# Altium footprint library Kame_FMU.PcbLib: 23 footprints (part 1 of 2)
Each footprint in its own frame and in the unit in brackets; x right, y up, seen from the top. Pads: shape width x height; smd on the part's side, far side on the other; paste and mask are expansions set on the pad; w line width, h text height; cw(c..) or ccw(c..) is an arc to the next point about the centre after c.
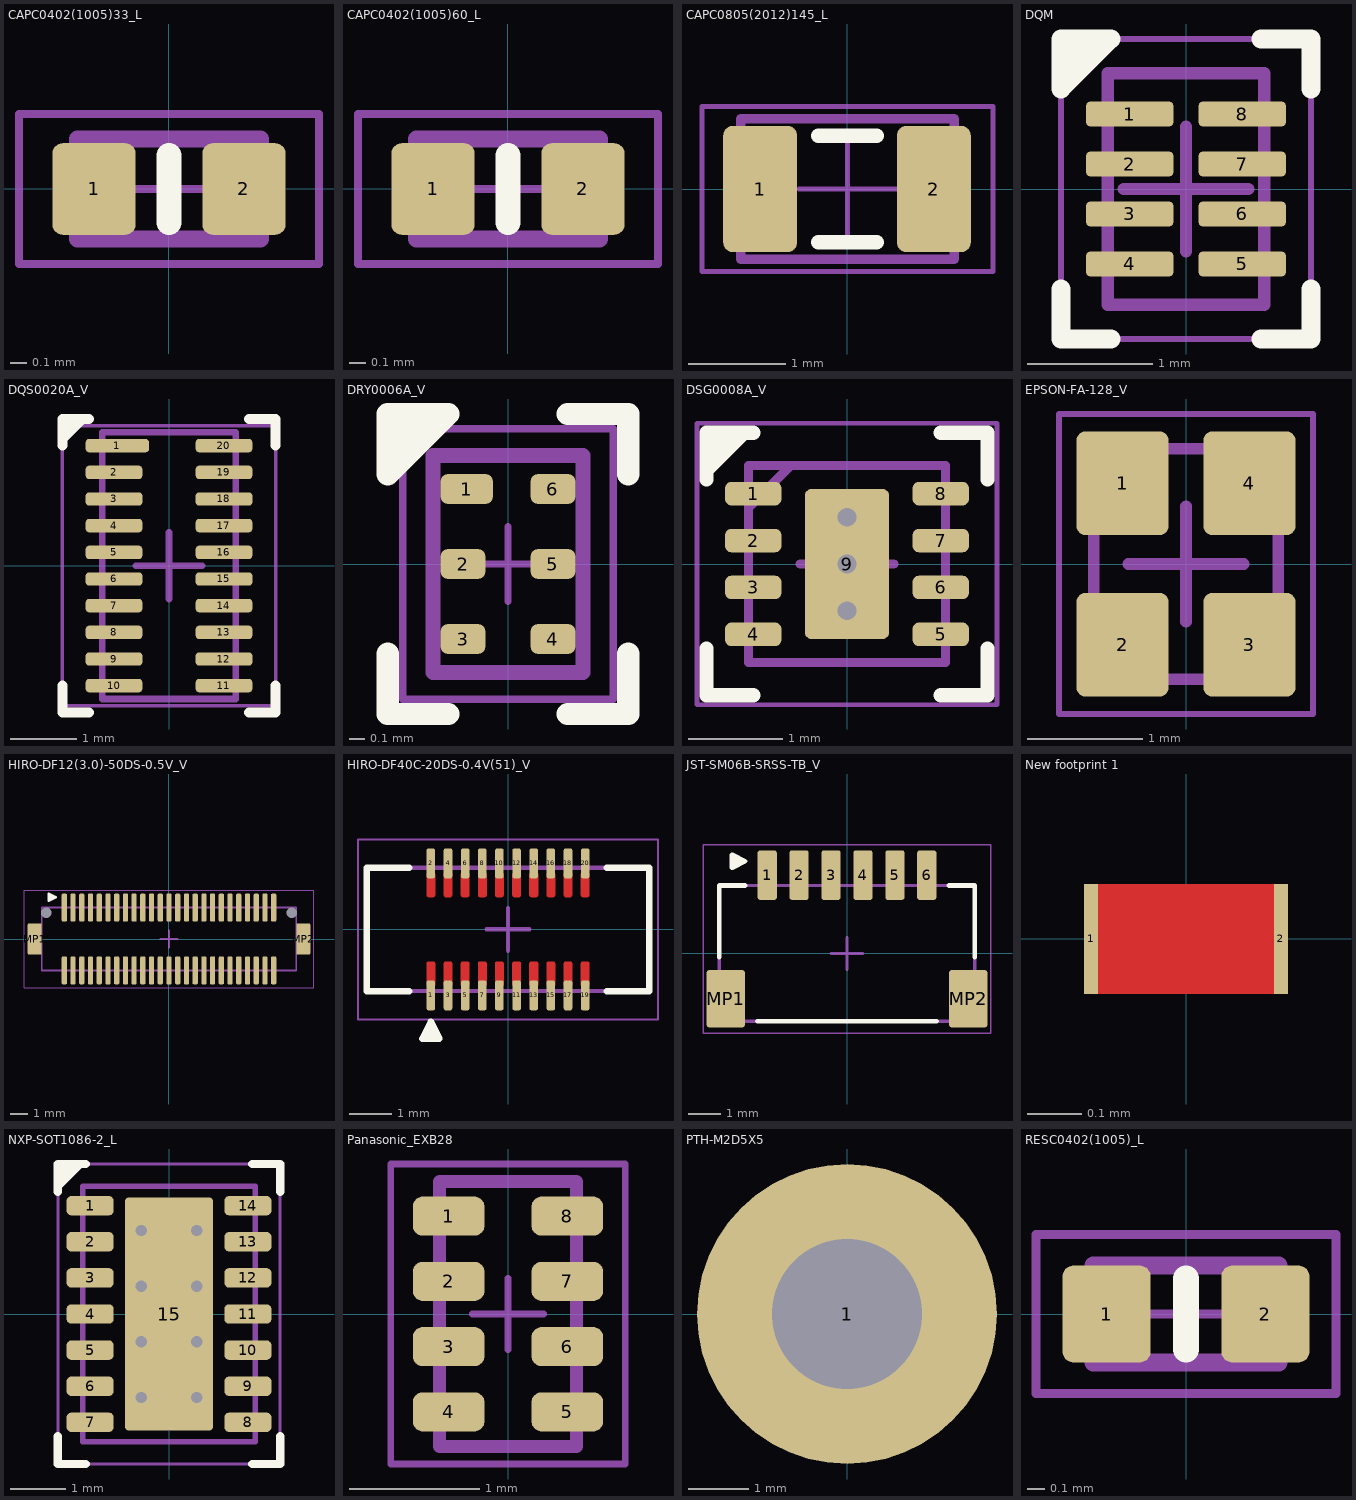
[diagram p0: the footprints below, top view; thin cyan lines are the x and y axes]

## CAPC0402(1005)33_L [mm]
pads (2):
  rrect25% 0.5x0.55 smd: 1(-0.45,0) 2(0.45,0)
Top Overlay:
  lines w0.15: 0,-0.2 0,0.2
Top Courtyard:
  lines w0.05: -0.275,0 0.275,0 ; 0,-0.275 0,0.275 ; -0.9,-0.45 -0.9,0.45 0.9,0.45 0.9,-0.45 -0.9,-0.45
Top Assembly:
  lines w0.1: -0.55,-0.3 0.55,-0.3 0.55,0.3 -0.55,0.3 -0.55,-0.3
Top Designator:
  text ".Designator" at -1.27,-0.127 h0.6
3D body "CAPC1005X55N EIA 0402.STEP": height 0.55, standoff 0, extent -0.5,-0.25 0.5,0.25

## CAPC0402(1005)60_L [mm]
pads (2):
  rrect25% 0.5x0.55 smd: 1(-0.45,0) 2(0.45,0)
Top Overlay:
  lines w0.15: 0,-0.2 0,0.2
Top Courtyard:
  lines w0.05: -0.275,0 0.275,0 ; 0,-0.275 0,0.275 ; -0.9,-0.45 0.9,-0.45 0.9,0.45 -0.9,0.45 -0.9,-0.45
Top Assembly:
  lines w0.1: -0.55,-0.3 -0.55,0.3 0.55,0.3 0.55,-0.3 -0.55,-0.3
Top Designator:
  text ".Designator" at -1.27,-0.127 h0.6
3D body "CAPC1005X60N EIA 0402.STEP": height 0.6, standoff 0, extent -0.5,-0.25 0.5,0.25

## CAPC0805(2012)145_L [mm]
pads (2):
  rrect25% 0.76x1.3 smd: 1(-0.9,0) 2(0.89,0)
Top Overlay:
  lines w0.15: -0.3,-0.55 0.3,-0.55 ; -0.3,0.55 0.3,0.55
Top Courtyard:
  lines w0.05: -0.5,0 0.5,0 ; 0,-0.5 0,0.5 ; -1.5,-0.85 1.5,-0.85 1.5,0.85 -1.5,0.85 -1.5,-0.85
Top Assembly:
  lines w0.1: -1.1,-0.725 -1.1,0.725 1.1,0.725 1.1,-0.725 -1.1,-0.725
Top Designator:
  text ".Designator" at -1.27,-0.127 h0.6
3D body "CAPC2012X145N EIA 0805.STEP": height 1.45, standoff 0, extent -1,-0.6 1,0.6

## DQM [mm]
pads (8):
  rrect36% 0.7x0.2 smd paste+0 mask+0.05: 1(-0.45,0.6) 2(-0.45,0.2) 3(-0.45,-0.2) 4(-0.45,-0.6) 5(0.45,-0.6) 6(0.45,-0.2) 7(0.45,0.2) 8(0.45,0.6)
Top Overlay:
  region: -1,1.2 -1,0.8 -0.6,1.2
  lines w0.15: -1,-0.8 -1,-1.2 -0.6,-1.2 ; 0.6,-1.2 1,-1.2 1,-0.8 ; 0.6,1.2 1,1.2 1,0.8 ; -1,0.8 -1,1.2 -0.6,1.2 -1,0.8 ; -1,0.8 -1,0.8
Top Courtyard:
  lines w0.05: -1,-1.2 -1,1.2 1,1.2 1,-1.2 -1,-1.2
  lines w0.1: -0.5,0 0.5,0 ; 0,-0.5 0,0.5
Top Assembly:
  lines w0.1: -0.625,-0.925 0.625,-0.925 0.625,0.925 -0.625,0.925 -0.625,-0.925
Top Designator:
  text ".Designator" at -1.27,-0.127 h0.6
3D body: height 0.35, standoff 0.05, extent -0.625,-0.925 0.625,0.925

## DQS0020A_V [mm]
pads (20):
  rrect50% 0.95x0.2 smd: 1(-0.775,1.8)
  rrect50% 0.85x0.2 smd: 2(-0.825,1.4) 3(-0.825,1) 4(-0.825,0.6) 5(-0.825,0.2) 6(-0.825,-0.2) 7(-0.825,-0.6) 8(-0.825,-1) 9(-0.825,-1.4) 10(-0.825,-1.8) 11(0.825,-1.8) 12(0.825,-1.4) 13(0.825,-1) 14(0.825,-0.6) 15(0.825,-0.2) 16(0.825,0.2) 17(0.825,0.6) 18(0.825,1) 19(0.825,1.4) 20(0.825,1.8)
Top Overlay:
  region: -1.6,2.2 -1.6,1.9 -1.3,2.2
  lines w0.15: -1.6,-1.8 -1.6,-2.2 -1.2,-2.2 ; -1.3,2.2 -1.6,1.9 ; -1.2,2.2 -1.6,2.2 -1.6,1.8 ; 1.2,-2.2 1.6,-2.2 1.6,-1.8 ; 1.2,2.2 1.6,2.2 1.6,1.8 ; -1.6,1.8 -1.6,1.8 ; -1.6,1.9 -1.6,1.9
Top Courtyard:
  lines w0.05: -1.6,-2.1 1.6,-2.1 1.6,2.1 -1.6,2.1 -1.6,-2.1
  lines w0.1: -0.5,0 0.5,0 ; 0,-0.5 0,0.5
Top Assembly:
  lines w0.1: -1,-2 1,-2 1,2 -1,2 -1,-2
Top Designator:
  text ".Designator" at -0.254,1.27 h0.6
3D body "USON20.STEP": height 0.5, standoff -0.05, extent -1.001,-2 1.001,2

## DRY0006A_V [mm]
pads (6):
  rrect50% 0.35x0.2 smd: 1(-0.275,0.5)
  rrect50% 0.3x0.2 smd: 2(-0.3,0) 3(-0.3,-0.5) 4(0.3,-0.5) 5(0.3,0) 6(0.3,0.5)
Top Overlay:
  region: -0.8,1 -0.8,0.6 -0.4,1
  lines w0.15: -0.8,-0.6 -0.8,-1 -0.4,-1 ; 0.4,-1 0.8,-1 0.8,-0.6 ; 0.4,1 0.8,1 0.8,0.6 ; -0.8,0.6 -0.4,1 -0.8,1 -0.8,0.6
Top Courtyard:
  lines w0.05: -0.25,0 0.25,0 ; 0,-0.25 0,0.25 ; -0.7,-0.9 0.7,-0.9 0.7,0.9 -0.7,0.9 -0.7,-0.9
Top Assembly:
  lines w0.1: -0.5,-0.725 0.5,-0.725 0.5,0.725 -0.5,0.725 -0.5,-0.725
Top Designator:
  text ".Designator" at -1.27,-0.127 h0.6
3D body "USON-6.STEP": height 0.51, standoff 0, extent -0.5,-0.75 0.5,0.75

## DSG0008A_V [mm]
pads (9):
  rrect50% 0.6x0.25 smd: 1(-1,0.75) 2(-1,0.25) 3(-1,-0.25) 4(-1,-0.75) 5(1,-0.75) 6(1,-0.25) 7(1,0.25) 8(1,0.75)
  rrect15% 0.9x1.6 smd paste-0.45: 9(0,0)
via 0,0 diameter 0.4 hole 0.2
via 0,-0.5 diameter 0.4 hole 0.2
via 0,0.5 diameter 0.4 hole 0.2
Top Overlay:
  region: -1.5,1.4 -1.5,1 -1.1,1.4
  lines w0.15: -1.5,-0.9 -1.5,-1.4 -1,-1.4 ; -1.5,0.9 -1.5,1.4 -1,1.4 ; -1.5,1 -1.1,1.4 ; 1,-1.4 1.5,-1.4 1.5,-0.9 ; 1,1.4 1.5,1.4 1.5,0.9
Top Paste:
  rectangle: -0.427,-0.733 0.427,0.733
Top Courtyard:
  lines w0.05: -1.6,-1.5 1.6,-1.5 1.6,1.5 -1.6,1.5 -1.6,-1.5
  lines w0.1: -0.5,0 0.5,0 ; 0,-0.5 0,0.5
Top Assembly:
  lines w0.1: -1.05,0.6 -0.6,1.05 ; -1.05,-1.05 -1.05,1.05 1.05,1.05 1.05,-1.05 -1.05,-1.05
Top Designator:
  text ".Designator" at -1.27,-0.127 h0.6
3D body "WSON8-2x2mm-1.STEP": height 0.79, standoff -0.01, extent -1,-1 1,1

## EPSON-FA-128_V [mm]
pads (4):
  rrect20% 0.8x0.9 smd: 1(-0.55,0.7) 2(-0.55,-0.7) 3(0.55,-0.7) 4(0.55,0.7)
Top Courtyard:
  lines w0.05: -1.1,-1.3 -1.1,1.3 1.1,1.3 1.1,-1.3 -1.1,-1.3
  lines w0.1: -0.5,0 0.5,0 ; 0,-0.5 0,0.5
Top Assembly:
  lines w0.1: -0.8,0.7 -0.5,1 ; -0.8,-1 0.8,-1 0.8,1 -0.8,1 -0.8,-1
Top Designator:
  text ".Designator" at -1.27,-0.127 h0.6
3D body "CX2016DB16000D0GPSC1.STEP": height 0.4, standoff 0, extent -0.8,-1 0.8,1

## HIRO-DF12(3.0)-50DS-0.5V_V [mm]
pads (54):
  rrect50% 0.3x1.6 smd paste-0.01: 1(-6,1.8) 2(-6,-1.8) 3(-5.5,1.8) 4(-5.5,-1.8) 5(-5,1.8) 6(-5,-1.8) 7(-4.5,1.8) 8(-4.5,-1.8) 9(-4,1.8) 10(-4,-1.8) 11(-3.5,1.8) 12(-3.5,-1.8) 13(-3,1.8) 14(-3,-1.8) 15(-2.5,1.8) 16(-2.5,-1.8) 17(-2,1.8) 18(-2,-1.8) 19(-1.5,1.8) 20(-1.5,-1.8) 21(-1,1.8) 22(-1,-1.8) 23(-0.5,1.8) 24(-0.5,-1.8) 25(0,1.8) 26(0,-1.8) 27(0.5,1.8) 28(0.5,-1.8) 29(1,1.8) 30(1,-1.8) 31(1.5,1.8) 32(1.5,-1.8) 33(2,1.8) 34(2,-1.8) 35(2.5,1.8) 36(2.5,-1.8) 37(3,1.8) 38(3,-1.8) 39(3.5,1.8) 40(3.5,-1.8) 41(4,1.8) 42(4,-1.8) 43(4.5,1.8) 44(4.5,-1.8) 45(5,1.8) 46(5,-1.8) 47(5.5,1.8) 48(5.5,-1.8) 49(6,1.8) 50(6,-1.8)
  round 0 hole 0.6 unplated: H1(-7.05,1.5) H2(7.05,1.5)
  rrect20% 0.8x1.8 smd: MP1(-7.7,0) MP2(7.7,0)
Top Overlay:
  region: -6.9,2.6 -6.9,2.2 -6.5,2.4
  lines w0.15: -6.9,2.2 -6.9,2.6 -6.5,2.4 -6.9,2.2
Top Courtyard:
  lines w0.05: -8.3,-2.8 8.3,-2.8 8.3,2.8 -8.3,2.8 -8.3,-2.8
  lines w0.1: -0.5,0 0.5,0 ; 0,-0.5 0,0.5
Top Assembly:
  lines w0.1: -7.3,-1.8 -7.3,1.8 7.3,1.8 7.3,-1.8 -7.3,-1.8
Top Designator:
  text ".Designator" at -1.27,-0.127 h0.6
3D body "DF12(3.0)-50DS-0.5V.stp": height 2.2, standoff -0.6, extent -7.8,-2.3 7.8,2.3

## HIRO-DF40C-20DS-0.4V(51)_V [mm]
pads (20):
  rrect50% 0.2x0.7 smd: 1(-1.8,-1.54) 2(-1.8,1.54) 3(-1.4,-1.54) 4(-1.4,1.54) 5(-1,-1.54) 6(-1,1.54) 7(-0.6,-1.54) 8(-0.6,1.54) 9(-0.2,-1.54) 10(-0.2,1.54) 11(0.2,-1.54) 12(0.2,1.54) 13(0.6,-1.54) 14(0.6,1.54) 15(1,-1.54) 16(1,1.54) 17(1.4,-1.54) 18(1.4,1.54) 19(1.8,-1.54) 20(1.8,1.54)
Top Layer:
  region: -1.9,-1.3 -1.7,-1.3 -1.7,-0.8 -1.7,-0.79 -1.708,-0.772 -1.722,-0.758 -1.74,-0.75 -1.75,-0.75 -1.85,-0.75 -1.86,-0.75 -1.878,-0.758 -1.892,-0.772 -1.9,-0.79 -1.9,-0.8
  region: -1.5,-1.3 -1.3,-1.3 -1.3,-0.8 -1.3,-0.79 -1.308,-0.772 -1.322,-0.758 -1.34,-0.75 -1.35,-0.75 -1.45,-0.75 -1.46,-0.75 -1.478,-0.758 -1.492,-0.772 -1.5,-0.79 -1.5,-0.8
  region: -1.1,-1.3 -0.9,-1.3 -0.9,-0.8 -0.9,-0.79 -0.908,-0.772 -0.922,-0.758 -0.94,-0.75 -0.95,-0.75 -1.05,-0.75 -1.06,-0.75 -1.078,-0.758 -1.092,-0.772 -1.1,-0.79 -1.1,-0.8
  region: -0.7,-1.3 -0.5,-1.3 -0.5,-0.8 -0.5,-0.79 -0.508,-0.772 -0.522,-0.758 -0.54,-0.75 -0.55,-0.75 -0.65,-0.75 -0.66,-0.75 -0.678,-0.758 -0.692,-0.772 -0.7,-0.79 -0.7,-0.8
  region: -0.3,-1.3 -0.1,-1.3 -0.1,-0.8 -0.1,-0.79 -0.108,-0.772 -0.122,-0.758 -0.14,-0.75 -0.15,-0.75 -0.25,-0.75 -0.26,-0.75 -0.278,-0.758 -0.292,-0.772 -0.3,-0.79 -0.3,-0.8
  region: 0.1,-1.3 0.3,-1.3 0.3,-0.8 0.3,-0.79 0.292,-0.772 0.278,-0.758 0.26,-0.75 0.25,-0.75 0.15,-0.75 0.14,-0.75 0.122,-0.758 0.108,-0.772 0.1,-0.79 0.1,-0.8
  region: 0.5,-1.3 0.7,-1.3 0.7,-0.8 0.7,-0.79 0.692,-0.772 0.678,-0.758 0.66,-0.75 0.65,-0.75 0.55,-0.75 0.54,-0.75 0.522,-0.758 0.508,-0.772 0.5,-0.79 0.5,-0.8
  region: 0.9,-1.3 1.1,-1.3 1.1,-0.8 1.1,-0.79 1.092,-0.772 1.078,-0.758 1.06,-0.75 1.05,-0.75 0.95,-0.75 0.94,-0.75 0.922,-0.758 0.908,-0.772 0.9,-0.79 0.9,-0.8
  region: 1.3,-1.3 1.5,-1.3 1.5,-0.8 1.5,-0.79 1.492,-0.772 1.478,-0.758 1.46,-0.75 1.45,-0.75 1.35,-0.75 1.34,-0.75 1.322,-0.758 1.308,-0.772 1.3,-0.79 1.3,-0.8
  region: 1.7,-1.3 1.9,-1.3 1.9,-0.8 1.9,-0.79 1.892,-0.772 1.878,-0.758 1.86,-0.75 1.85,-0.75 1.75,-0.75 1.74,-0.75 1.722,-0.758 1.708,-0.772 1.7,-0.79 1.7,-0.8
  region: -1.7,1.3 -1.9,1.3 -1.9,0.8 -1.9,0.79 -1.892,0.772 -1.878,0.758 -1.86,0.75 -1.85,0.75 -1.75,0.75 -1.74,0.75 -1.722,0.758 -1.708,0.772 -1.7,0.79 -1.7,0.8
  region: -1.3,1.3 -1.5,1.3 -1.5,0.8 -1.5,0.79 -1.492,0.772 -1.478,0.758 -1.46,0.75 -1.45,0.75 -1.35,0.75 -1.34,0.75 -1.322,0.758 -1.308,0.772 -1.3,0.79 -1.3,0.8
  region: -0.9,1.3 -1.1,1.3 -1.1,0.8 -1.1,0.79 -1.092,0.772 -1.078,0.758 -1.06,0.75 -1.05,0.75 -0.95,0.75 -0.94,0.75 -0.922,0.758 -0.908,0.772 -0.9,0.79 -0.9,0.8
  region: -0.5,1.3 -0.7,1.3 -0.7,0.8 -0.7,0.79 -0.692,0.772 -0.678,0.758 -0.66,0.75 -0.65,0.75 -0.55,0.75 -0.54,0.75 -0.522,0.758 -0.508,0.772 -0.5,0.79 -0.5,0.8
  region: -0.1,1.3 -0.3,1.3 -0.3,0.8 -0.3,0.79 -0.292,0.772 -0.278,0.758 -0.26,0.75 -0.25,0.75 -0.15,0.75 -0.14,0.75 -0.122,0.758 -0.108,0.772 -0.1,0.79 -0.1,0.8
  region: 0.3,1.3 0.1,1.3 0.1,0.8 0.1,0.79 0.108,0.772 0.122,0.758 0.14,0.75 0.15,0.75 0.25,0.75 0.26,0.75 0.278,0.758 0.292,0.772 0.3,0.79 0.3,0.8
  region: 0.7,1.3 0.5,1.3 0.5,0.8 0.5,0.79 0.508,0.772 0.522,0.758 0.54,0.75 0.55,0.75 0.65,0.75 0.66,0.75 0.678,0.758 0.692,0.772 0.7,0.79 0.7,0.8
  region: 1.1,1.3 0.9,1.3 0.9,0.8 0.9,0.79 0.908,0.772 0.922,0.758 0.94,0.75 0.95,0.75 1.05,0.75 1.06,0.75 1.078,0.758 1.092,0.772 1.1,0.79 1.1,0.8
  region: 1.5,1.3 1.3,1.3 1.3,0.8 1.3,0.79 1.308,0.772 1.322,0.758 1.34,0.75 1.35,0.75 1.45,0.75 1.46,0.75 1.478,0.758 1.492,0.772 1.5,0.79 1.5,0.8
  region: 1.9,1.3 1.7,1.3 1.7,0.8 1.7,0.79 1.708,0.772 1.722,0.758 1.74,0.75 1.75,0.75 1.85,0.75 1.86,0.75 1.878,0.758 1.892,0.772 1.9,0.79 1.9,0.8
Top Overlay:
  region: -2,-2.55 -1.6,-2.55 -1.8,-2.15
  lines w0.15: -2.3,-1.44 -3.3,-1.44 -3.3,1.44 -2.3,1.44 ; 2.3,-1.44 3.3,-1.44 3.3,1.44 2.3,1.44 ; -2,-2.55 -1.8,-2.15 -1.6,-2.55 -2,-2.55
Top Courtyard:
  lines w0.05: -3.5,-2.1 -3.5,2.1 3.5,2.1 3.5,-2.1 -3.5,-2.1
  lines w0.1: -0.5,0 0.5,0 ; 0,-0.5 0,0.5
Top Assembly:
  lines w0.1: -3.3,-1.44 3.3,-1.44 3.3,1.44 -3.3,1.44 -3.3,-1.44
Top Designator:
  text ".Designator" at -1.27,-0.127 h0.6
3D body "DF40C-20DS.stp": height 1.45, standoff 0, extent -3.3,-1.69 3.3,1.69

## JST-SM06B-SRSS-TB_V [mm]
pads (8):
  rrect25% 0.6x1.55 smd: 1(-2.5,2.45) 2(-1.5,2.45) 3(-0.5,2.45) 4(0.5,2.45) 5(1.5,2.45) 6(2.5,2.45)
  rrect15% 1.2x1.8 smd: MP1(-3.8,-1.425) MP2(3.8,-1.425)
Top Overlay:
  region: -3.6,3.088 -3.6,2.688 -3.2,2.888
  lines w0.15: -4,-0.125 -4,2.125 -3.2,2.125 ; -2.8,-2.125 2.8,-2.125 ; 3.2,2.125 4,2.125 4,-0.125 ; -3.6,2.688 -3.6,3.088 -3.2,2.888 -3.6,2.688
Top Courtyard:
  lines w0.05: -4.5,-2.5 -4.5,3.4 4.5,3.4 4.5,-2.5 -4.5,-2.5
  lines w0.1: -0.5,0 0.5,0 ; 0,-0.5 0,0.5
Top Assembly:
  lines w0.1: -4,-2.125 -4,2.125 4,2.125 4,-2.125 -4,-2.125
Top Designator:
  text ".Designator" at -1.27,-1.016 h0.6
3D body "SM06B-SRSS-TB.STEP": height 2.9, standoff 0, extent -4,-2.15 4,2.8

## New footprint 1 [mil]
pads (2):
  rect 1x8 smd: 1(-6.89,0) 2(6.89,0)
Top Layer:
  rectangle: -6.89,-4 6.89,4
Top Designator:
  text ".Designator" at -50,10 h23.62

## NXP-SOT1086-2_L [mm]
pads (15):
  rrect50% 0.85x0.35 smd: 1(-1.42,1.95) 2(-1.42,1.3) 3(-1.42,0.65) 4(-1.42,0) 5(-1.42,-0.65) 6(-1.42,-1.3) 7(-1.42,-1.95) 8(1.42,-1.95) 9(1.42,-1.3) 10(1.42,-0.65) 11(1.42,0) 12(1.42,0.65) 13(1.42,1.3) 14(1.42,1.95)
  rrect10% 1.59x4.2 smd: 15(0,0)
via 0.5,-1.5 diameter 0.4 hole 0.2
via -0.5,-1.5 diameter 0.4 hole 0.2
via 0.5,-0.5 diameter 0.4 hole 0.2
via -0.5,-0.5 diameter 0.4 hole 0.2
via 0.5,0.5 diameter 0.4 hole 0.2
via -0.5,0.5 diameter 0.4 hole 0.2
via 0.5,1.5 diameter 0.4 hole 0.2
via -0.5,1.5 diameter 0.4 hole 0.2
Top Overlay:
  region: -2,2.7 -2,2.3 -1.6,2.7
  lines w0.15: -2,-2.2 -2,-2.7 -1.5,-2.7 ; -2,2.2 -2,2.7 -1.5,2.7 ; -1.6,2.7 -2,2.3 ; 1.5,-2.7 2,-2.7 2,-2.2 ; 1.5,2.7 2,2.7 2,2.2 ; -2,2.3 -2,2.3
Top Courtyard:
  lines w0.05: -2,-2.7 2,-2.7 2,2.7 -2,2.7 -2,-2.7
  lines w0.1: -0.5,0 0.5,0 ; 0,-0.5 0,0.5
Top Assembly:
  lines w0.1: -1.55,-2.3 1.55,-2.3 1.55,2.3 -1.55,2.3 -1.55,-2.3
Top Designator:
  text ".Designator" at -1.27,-0.127 h0.6
3D body "SON65P300X100_HS-15L.step": height 1, standoff 0, extent -1.55,-2.3 1.55,2.3

## Panasonic_EXB28 [mm]
pads (8):
  rrect50% 0.55x0.3 smd: 1(-0.455,0.75) 2(-0.455,0.25) 3(-0.455,-0.25) 4(-0.455,-0.75) 5(0.455,-0.75) 6(0.455,-0.25) 7(0.455,0.25) 8(0.455,0.75)
Top Courtyard:
  lines w0.05: -0.275,0 0.275,0 ; 0,-0.275 0,0.275 ; -0.9,-1.15 0.9,-1.15 0.9,1.15 -0.9,1.15 -0.9,-1.15
Top Assembly:
  lines w0.1: -0.525,-1.016 0.525,-1.016 0.525,1.016 -0.525,1.016 -0.525,-1.016
Top Designator:
  text ".Designator" at -0.889,-1.27 h0.6
3D body "741C083.STEP": height 0.37, standoff -0.01, extent -0.502,-1 0.502,1

## PTH-M2D5X5 [mm]
pads (1):
  round 5 hole 2.5: 1(0,0)
Top Designator:
  text ".Designator" at -1.397,2.921 h0.6

## RESC0402(1005)_L [mm]
pads (2):
  rrect25% 0.5x0.55 smd: 1(-0.45,0) 2(0.45,0)
Top Overlay:
  lines w0.15: 0,-0.2 0,0.2
Top Courtyard:
  lines w0.05: -0.275,0 0.275,0 ; 0,-0.275 0,0.275 ; -0.85,-0.45 -0.85,0.45 0.85,0.45 0.85,-0.45 -0.85,-0.45
Top Assembly:
  lines w0.1: -0.525,-0.275 -0.525,0.275 0.525,0.275 0.525,-0.275 -0.525,-0.275
Top Designator:
  text ".Designator" at -1.27,-0.127 h0.6
3D body "RES0402.step": height 0.3, standoff 0, extent -0.5,-0.25 0.5,0.25